# Altium footprint library Connector - Terminal Block.PcbLib: 20 footprints (part 1 of 2)
Each footprint in its own frame and in the unit in brackets; x right, y up, seen from the top. Pads: shape width x height; smd on the part's side, far side on the other; paste and mask are expansions set on the pad; w line width, h text height; cw(c..) or ccw(c..) is an arc to the next point about the centre after c.
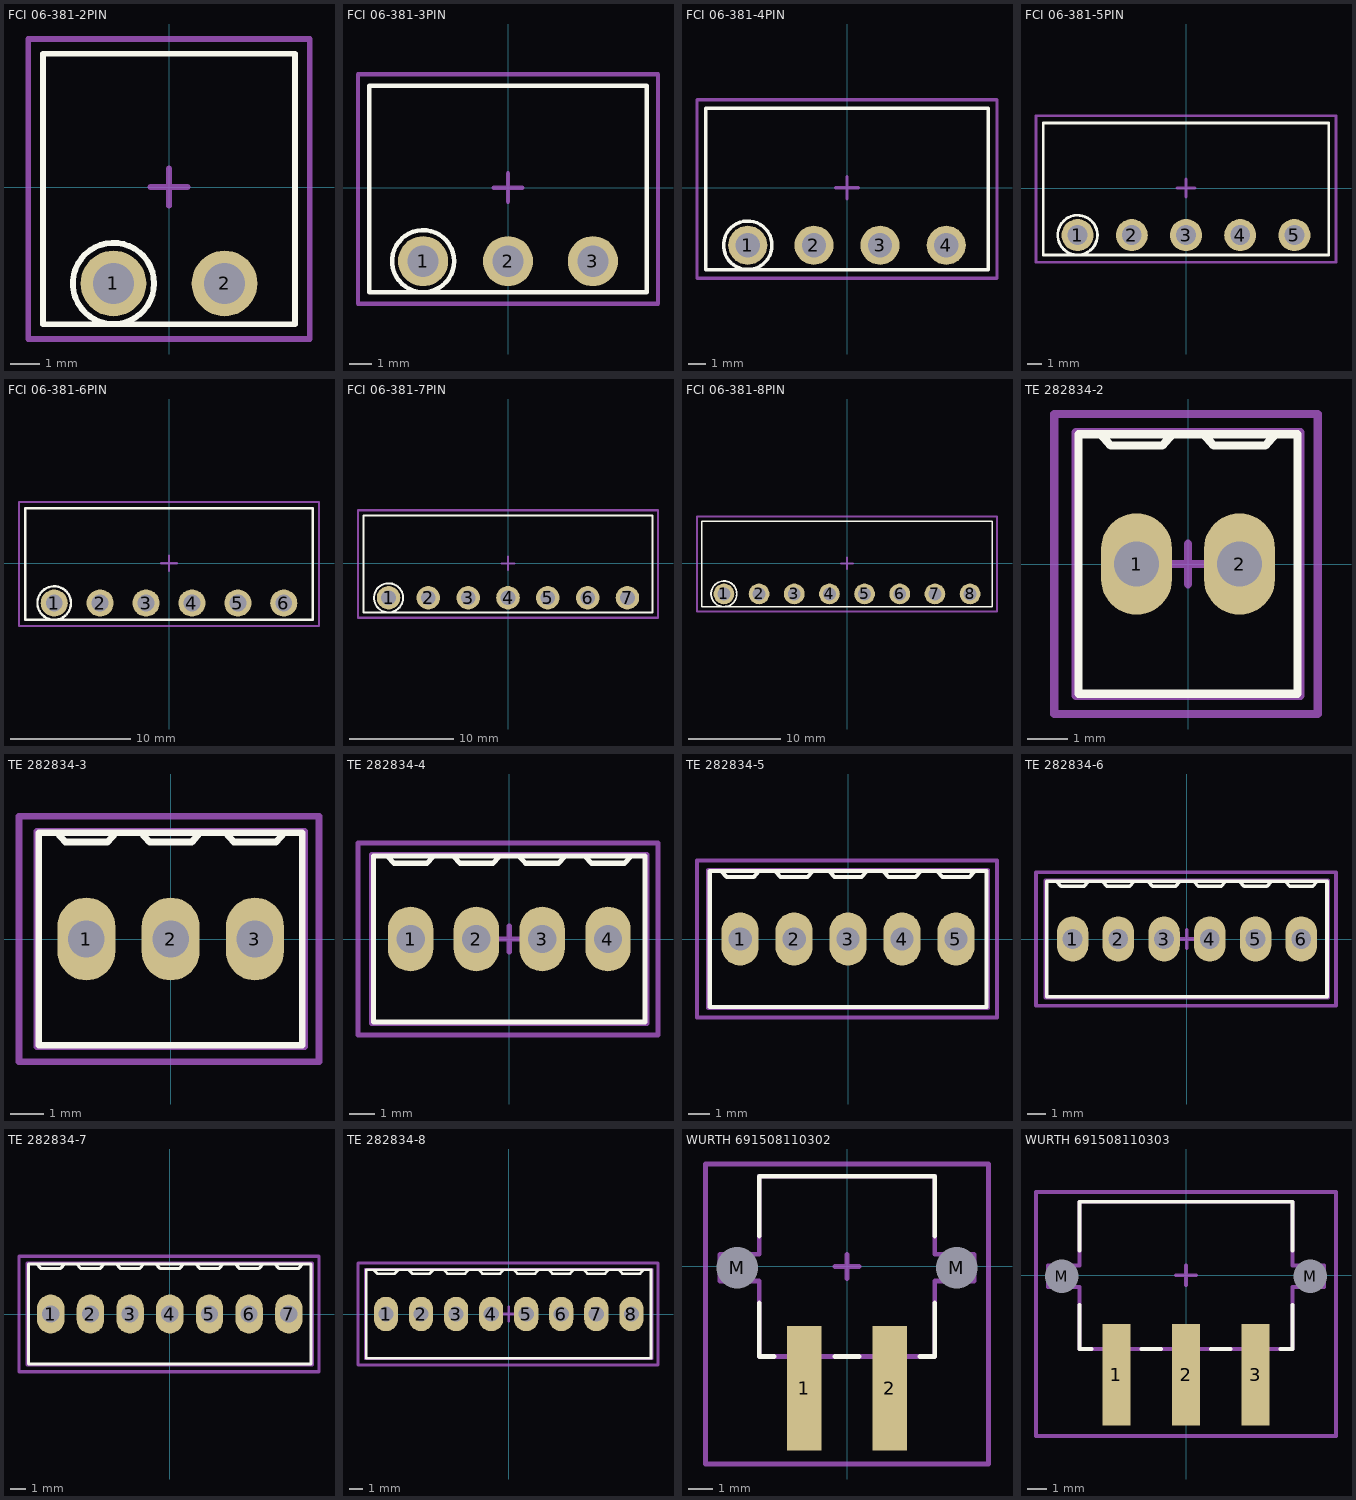
[diagram p0: the footprints below, top view; thin cyan lines are the x and y axes]

## FCI 06-381-2PIN [mm] "FCI Pluggable Terminal Block"
height 7
pads (2):
  round 2.25 hole 1.4: 1(-1.905,-3.302) 2(1.905,-3.302)
Top Overlay:
  circle w0.2: c-1.905,-3.302 r1.393
  lines w0.2: -4.318,-4.699 4.318,-4.699 4.318,4.572 -4.318,4.572 -4.318,-4.699
Mechanical 15:
  lines w0.2: -0.635,0 0.635,0 ; 0,-0.635 0,0.635 ; -4.826,-5.207 4.826,-5.207 4.826,5.08 -4.826,5.08 -4.826,-5.207
3D body "FCI 06-381 2Pos.STEP": height 7.6, standoff -3.52, extent -4.405,-4.699 4.405,4.501

## FCI 06-381-3PIN [mm] "FCI Pluggable Terminal Block"
height 7
pads (3):
  round 2.25 hole 1.4: 1(-3.81,-3.302) 2(0,-3.302) 3(3.81,-3.302)
Top Overlay:
  circle w0.2: c-3.81,-3.302 r1.393
  lines w0.2: -6.223,-4.699 -6.223,4.572 6.223,4.572 6.223,-4.699 -6.223,-4.699
Mechanical 15:
  lines w0.2: -0.635,0 0.635,0 ; 0,-0.635 0,0.635 ; -6.731,-5.207 -6.731,5.08 6.731,5.08 6.731,-5.207 -6.731,-5.207
3D body "FCI 06-381 3Pos.STEP": height 7.6, standoff -3.52, extent -6.31,-4.699 6.31,4.501

## FCI 06-381-4PIN [mm] "FCI Pluggable Terminal Block"
height 7
pads (4):
  round 2.25 hole 1.4: 1(-5.715,-3.302) 2(-1.905,-3.302) 3(1.905,-3.302) 4(5.715,-3.302)
Top Overlay:
  circle w0.2: c-5.715,-3.302 r1.393
  lines w0.2: -8.128,-4.699 -8.128,4.572 8.128,4.572 8.128,-4.699 -8.128,-4.699
Mechanical 15:
  lines w0.2: -0.635,0 0.635,0 ; 0,-0.635 0,0.635 ; -8.636,-5.207 -8.636,5.08 8.636,5.08 8.636,-5.207 -8.636,-5.207
3D body "FCI 06-381 4Pos.STEP": height 7.6, standoff -3.52, extent -8.215,-4.699 8.215,4.501

## FCI 06-381-5PIN [mm] "FCI Pluggable Terminal Block"
height 7
pads (5):
  round 2.25 hole 1.4: 1(-7.62,-3.302) 2(-3.81,-3.302) 3(0,-3.302) 4(3.81,-3.302) 5(7.62,-3.302)
Top Overlay:
  circle w0.2: c-7.62,-3.302 r1.393
  lines w0.2: -10.033,-4.699 10.033,-4.699 10.033,4.572 -10.033,4.572 -10.033,-4.699
Mechanical 15:
  lines w0.2: -0.635,0 0.635,0 ; 0,-0.635 0,0.635 ; -10.541,-5.207 10.541,-5.207 10.541,5.08 -10.541,5.08 -10.541,-5.207
3D body "FCI 06-381 5Pos.STEP": height 7.6, standoff -3.52, extent -10.12,-4.699 10.12,4.501

## FCI 06-381-6PIN [mm] "FCI Pluggable Terminal Block"
height 7
pads (6):
  round 2.25 hole 1.4: 1(-9.525,-3.302) 2(-5.715,-3.302) 3(-1.905,-3.302) 4(1.905,-3.302) 5(5.715,-3.302) 6(9.525,-3.302)
Top Overlay:
  circle w0.2: c-9.525,-3.302 r1.393
  lines w0.2: -11.938,-4.699 11.938,-4.699 11.938,4.572 -11.938,4.572 -11.938,-4.699
Mechanical 15:
  lines w0.2: -0.635,0 0.635,0 ; 0,-0.635 0,0.635 ; -12.446,-5.207 12.446,-5.207 12.446,5.08 -12.446,5.08 -12.446,-5.207
3D body "FCI 06-381 6Pos.STEP": height 7.6, standoff -3.52, extent -12.025,-4.699 12.025,4.501

## FCI 06-381-7PIN [mm] "FCI Pluggable Terminal Block"
height 7
pads (7):
  round 2.25 hole 1.4: 1(-11.43,-3.302) 2(-7.62,-3.302) 3(-3.81,-3.302) 4(0,-3.302) 5(3.81,-3.302) 6(7.62,-3.302) 7(11.43,-3.302)
Top Overlay:
  circle w0.2: c-11.43,-3.302 r1.393
  lines w0.2: -13.843,-4.699 -13.843,4.572 13.843,4.572 13.843,-4.699 -13.843,-4.699
Mechanical 15:
  lines w0.2: -0.635,0 0.635,0 ; 0,-0.635 0,0.635 ; -14.351,-5.207 -14.351,5.08 14.351,5.08 14.351,-5.207 -14.351,-5.207
3D body "FCI 06-381 7Pos.STEP": height 7.6, standoff -3.52, extent -13.93,-4.699 13.93,4.501

## FCI 06-381-8PIN [mm] "FCI Pluggable Terminal Block"
height 7
pads (8):
  round 2.25 hole 1.4: 1(-13.335,-3.302) 2(-9.525,-3.302) 3(-5.715,-3.302) 4(-1.905,-3.302) 5(1.905,-3.302) 6(5.715,-3.302) 7(9.525,-3.302) 8(13.335,-3.302)
Top Overlay:
  circle w0.2: c-13.335,-3.302 r1.393
  lines w0.2: -15.748,-4.699 15.748,-4.699 15.748,4.572 -15.748,4.572 -15.748,-4.699
Mechanical 15:
  lines w0.2: -0.635,0 0.635,0 ; 0,-0.635 0,0.635 ; -16.256,-5.207 16.256,-5.207 16.256,5.08 -16.256,5.08 -16.256,-5.207
3D body "FCI 06-381 8Pos.STEP": height 7.6, standoff -3.52, extent -15.835,-4.699 15.835,4.501

## TE 282834-2 [mm]
height 10
pads (2):
  oval 1.75x2.5 hole 1.1: 1(-1.27,0) 2(1.27,0)
Top Overlay:
  lines w0.2: -2.159,3.2 -1.905,2.921 -0.635,2.921 -0.381,3.2 ; 0.381,3.2 0.635,2.921 1.905,2.921 2.159,3.2 ; -2.7,-3.2 -2.7,3.2 2.7,3.2 2.7,-3.2 -2.6,-3.2 -2.7,-3.2
Mechanical 13:
  lines w0.2: -2.77,-3.25 2.77,-3.25 2.77,3.25 -2.77,3.25 -2.77,-3.25
Mechanical 15:
  lines w0.2: -0.5,0 0.5,0 ; 0,-0.5 0,0.5 ; -3.3,-3.7 -3.3,-3.3 -3.3,3.7 3.2,3.7 3.2,-2.9 3.2,-3.7 -3.3,-3.7
3D body "TE Term Block 2port 282834-2-c-3d.STEP": height 10, standoff -3.4, extent -2.77,-3.25 2.77,3.25

## TE 282834-3 [mm]
height 10
pads (3):
  oval 1.75x2.5 hole 1.1: 1(-2.54,0) 2(0,0) 3(2.54,0)
Top Overlay:
  lines w0.2: -3.429,3.2 -3.175,2.921 -1.905,2.921 -1.651,3.2 ; -0.889,3.2 -0.635,2.921 0.635,2.921 0.889,3.2 ; 1.651,3.2 1.905,2.921 3.175,2.921 3.429,3.2 ; -3.97,-3.2 -3.97,3.2 3.97,3.2 3.97,-3.2 -3.87,-3.2 -3.97,-3.2
Mechanical 13:
  lines w0.2: -4.04,-3.25 4.04,-3.25 4.04,3.25 -4.04,3.25 -4.04,-3.25
Mechanical 15:
  lines w0.2: -0.5,0 0.5,0 ; 0,-0.5 0,0.5 ; -4.57,-3.7 -4.57,-3.3 -4.57,3.7 4.47,3.7 4.47,-2.9 4.47,-3.7 -4.57,-3.7
3D body "TE Term Block 3port 282834-3-c-3d.STEP": height 10, standoff -3.4, extent -4.04,-3.25 4.04,3.25

## TE 282834-4 [mm]
height 10
pads (4):
  oval 1.75x2.5 hole 1.1: 1(-3.81,0) 2(-1.27,0) 3(1.27,0) 4(3.81,0)
Top Overlay:
  lines w0.2: -4.699,3.2 -4.445,2.921 -3.175,2.921 -2.921,3.2 ; -2.159,3.2 -1.905,2.921 -0.635,2.921 -0.381,3.2 ; 0.381,3.2 0.635,2.921 1.905,2.921 2.159,3.2 ; 2.921,3.2 3.175,2.921 4.445,2.921 4.699,3.2 ; -5.24,-3.2 -5.24,3.2 5.24,3.2 5.24,-3.2 -5.14,-3.2 -5.24,-3.2
Mechanical 13:
  lines w0.2: -5.31,-3.25 5.31,-3.25 5.31,3.25 -5.31,3.25 -5.31,-3.25
Mechanical 15:
  lines w0.2: -0.5,0 0.5,0 ; 0,-0.5 0,0.5 ; -5.84,-3.7 -5.84,-3.3 -5.84,3.7 5.74,3.7 5.74,-2.9 5.74,-3.7 -5.84,-3.7
3D body "TE Term Block 4port 282834-4-c-3d.STEP": height 10, standoff -3.4, extent -5.31,-3.25 5.31,3.25

## TE 282834-5 [mm]
height 10
pads (5):
  oval 1.75x2.5 hole 1.1: 1(-5.08,0) 2(-2.54,0) 3(0,0) 4(2.54,0) 5(5.08,0)
Top Overlay:
  lines w0.2: -5.969,3.2 -5.715,2.921 -4.445,2.921 -4.191,3.2 ; -3.429,3.2 -3.175,2.921 -1.905,2.921 -1.651,3.2 ; -0.889,3.2 -0.635,2.921 0.635,2.921 0.889,3.2 ; 1.651,3.2 1.905,2.921 3.175,2.921 3.429,3.2 ; 4.191,3.2 4.445,2.921 5.715,2.921 5.969,3.2 ; -6.51,-3.2 -6.41,-3.2 6.51,-3.2 6.51,3.2 -6.51,3.2 -6.51,-3.2
Mechanical 13:
  lines w0.2: -6.58,-3.25 -6.58,3.25 6.58,3.25 6.58,-3.25 -6.58,-3.25
Mechanical 15:
  lines w0.2: -0.5,0 0.5,0 ; 0,-0.5 0,0.5 ; -7.11,-3.7 7.01,-3.7 7.01,-2.9 7.01,3.7 -7.11,3.7 -7.11,-3.3 -7.11,-3.7
3D body "TE Term Block 5port 282834-5-c-3d.STEP": height 10, standoff -3.4, extent -6.58,-3.25 6.58,3.25

## TE 282834-6 [mm]
height 10
pads (6):
  oval 1.75x2.5 hole 1.1: 1(-6.35,0) 2(-3.81,0) 3(-1.27,0) 4(1.27,0) 5(3.81,0) 6(6.35,0)
Top Overlay:
  lines w0.2: -7.239,3.2 -6.985,2.921 -5.715,2.921 -5.461,3.2 ; -4.699,3.2 -4.445,2.921 -3.175,2.921 -2.921,3.2 ; -2.159,3.2 -1.905,2.921 -0.635,2.921 -0.381,3.2 ; 0.381,3.2 0.635,2.921 1.905,2.921 2.159,3.2 ; 2.921,3.2 3.175,2.921 4.445,2.921 4.699,3.2 ; 5.461,3.2 5.715,2.921 6.985,2.921 7.239,3.2 ; -7.78,-3.2 -7.68,-3.2 7.78,-3.2 7.78,3.2 -7.78,3.2 -7.78,-3.2
Mechanical 13:
  lines w0.2: -7.85,-3.25 -7.85,3.25 7.85,3.25 7.85,-3.25 -7.85,-3.25
Mechanical 15:
  lines w0.2: -0.5,0 0.5,0 ; 0,-0.5 0,0.5 ; -8.38,-3.7 8.28,-3.7 8.28,-2.9 8.28,3.7 -8.38,3.7 -8.38,-3.3 -8.38,-3.7
3D body "TE Term Block 6port 282834-6-c-3d.STEP": height 10, standoff -3.4, extent -7.85,-3.25 7.85,3.25

## TE 282834-7 [mm]
height 10
pads (7):
  oval 1.75x2.5 hole 1.1: 1(-7.62,0) 2(-5.08,0) 3(-2.54,0) 4(0,0) 5(2.54,0) 6(5.08,0) 7(7.62,0)
Top Overlay:
  lines w0.2: -8.509,3.2 -8.255,2.921 -6.985,2.921 -6.731,3.2 ; -5.969,3.2 -5.715,2.921 -4.445,2.921 -4.191,3.2 ; -3.429,3.2 -3.175,2.921 -1.905,2.921 -1.651,3.2 ; -0.889,3.2 -0.635,2.921 0.635,2.921 0.889,3.2 ; 1.651,3.2 1.905,2.921 3.175,2.921 3.429,3.2 ; 4.191,3.2 4.445,2.921 5.715,2.921 5.969,3.2 ; 6.731,3.2 6.985,2.921 8.255,2.921 8.509,3.2 ; -9.05,-3.2 -9.05,3.2 9.05,3.2 9.05,-3.2 -8.95,-3.2 -9.05,-3.2
Mechanical 13:
  lines w0.2: -9.12,-3.25 9.12,-3.25 9.12,3.25 -9.12,3.25 -9.12,-3.25
Mechanical 15:
  lines w0.2: -0.5,0 0.5,0 ; 0,-0.5 0,0.5 ; -9.65,-3.7 -9.65,-3.3 -9.65,3.7 9.55,3.7 9.55,-2.9 9.55,-3.7 -9.65,-3.7
3D body "TE Term Block 7port 282834-7-c-3d.STEP": height 10, standoff -3.4, extent -9.12,-3.25 9.12,3.25

## TE 282834-8 [mm]
height 10
pads (8):
  oval 1.75x2.5 hole 1.1: 1(-8.89,0) 2(-6.35,0) 3(-3.81,0) 4(-1.27,0) 5(1.27,0) 6(3.81,0) 7(6.35,0) 8(8.89,0)
Top Overlay:
  lines w0.2: -9.779,3.2 -9.525,2.921 -8.255,2.921 -8.001,3.2 ; -7.239,3.2 -6.985,2.921 -5.715,2.921 -5.461,3.2 ; -4.699,3.2 -4.445,2.921 -3.175,2.921 -2.921,3.2 ; -2.159,3.2 -1.905,2.921 -0.635,2.921 -0.381,3.2 ; 0.381,3.2 0.635,2.921 1.905,2.921 2.159,3.2 ; 2.921,3.2 3.175,2.921 4.445,2.921 4.699,3.2 ; 5.461,3.2 5.715,2.921 6.985,2.921 7.239,3.2 ; 8.001,3.2 8.255,2.921 9.525,2.921 9.779,3.2 ; -10.32,-3.2 -10.22,-3.2 10.32,-3.2 10.32,3.2 -10.32,3.2 -10.32,-3.2
Mechanical 13:
  lines w0.2: -10.39,-3.25 -10.39,3.25 10.39,3.25 10.39,-3.25 -10.39,-3.25
Mechanical 15:
  lines w0.2: -0.5,0 0.5,0 ; 0,-0.5 0,0.5 ; -10.92,-3.7 10.82,-3.7 10.82,-2.9 10.82,3.7 -10.92,3.7 -10.92,-3.3 -10.92,-3.7
3D body "TE Term Block 8port 282834-8-c-3d.STEP": height 10, standoff -3.4, extent -10.39,-3.25 10.39,3.25

## WURTH 691508110302 [mm]
height 11.2
pads (4):
  rect 1.4x5.1 smd: 1(-1.75,-5) 2(1.75,-5)
  round 1 hole 1.7 unplated: M(-4.5,-0.05) M(4.5,-0.05)
Top Overlay:
  lines w0.2: -3.6,-1.5 -3.6,-3.7 -3,-3.7 ; -3.6,1.25 -3.6,3.7 3.6,3.7 3.6,1.25 ; -0.5,-3.7 0.5,-3.7 ; 3,-3.7 3.6,-3.7 3.6,-1.5
Mechanical 1:
  lines w0.2: -5.2,-0.6 -5.2,0.5 -3.6,0.5 -3.6,3.7 3.6,3.7 3.6,0.5 5.2,0.5 5.2,-0.6 3.6,-0.6 3.6,-3.7 0,-3.7 -3.6,-3.7 -3.6,-0.6 -5.2,-0.6
Mechanical 15:
  lines w0.2: -0.5,0 0.5,0 ; 0,-0.5 0,0.5 ; -5.8,-8.1 5.8,-8.1 5.8,4.2 -5.8,4.2 -5.8,-8.1
3D body "Wurth 691508110302.STEP": height 11.2, standoff -2, extent -5.175,-7.2 5.175,3.7

## WURTH 691508110303 [mm]
height 11.2
pads (5):
  rect 1.4x5.1 smd: 1(-3.5,-5) 2(0,-5) 3(3.5,-5)
  round 1 hole 1.7 unplated: M(-6.25,-0.05) M(6.25,-0.05)
Top Overlay:
  lines w0.2: -5.35,-1.5 -5.35,-3.7 -4.75,-3.7 ; -5.35,1.25 -5.35,3.7 5.35,3.7 5.35,1.25 ; -2.25,-3.7 -1.25,-3.7 ; 1.25,-3.7 2.25,-3.7 ; 4.75,-3.7 5.35,-3.7 5.35,-1.5
Mechanical 1:
  lines w0.2: -6.95,-0.6 -5.35,-0.6 -5.35,-3.7 5.35,-3.7 5.35,-0.6 6.95,-0.6 6.95,0.5 5.35,0.5 5.35,3.7 -5.35,3.7 -5.35,0.5 -6.95,0.5 -6.95,-0.6
Mechanical 15:
  lines w0.2: -0.5,0 0.5,0 ; 0,-0.5 0,0.5 ; -7.55,-8.1 -7.55,4.2 7.55,4.2 7.55,-8.1 -7.55,-8.1
3D body "Wurth 691508110303.STEP": height 11.2, standoff -2, extent -6.925,-7.2 6.925,3.7